# EAGLE library part 1P12T (library switches)
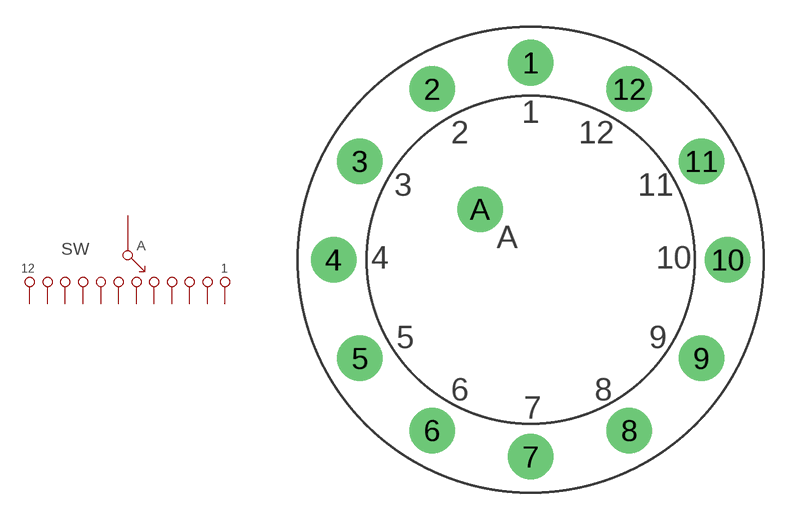
[diagram p2: symbol with the pads of 12T; footprint 12T]

Designator prefix SW

## 1P12T  [12T]
1  P$1
2  P$2
3  P$3
4  P$4
5  P$5
6  P$6
7  P$7
8  P$8
9  P$9
10  P$10
11  P$11
12  P$12
A  A

## Footprint 12T (pad centres in mm)
drill 1.6 pad 2.54: 1 0,10.999; 2 -5.5,9.526; 3 -9.525,5.5; 4 -10.999,0; 5 -9.525,-5.499; 6 -5.5,-9.525; 7 0,-10.999; 8 5.499,-9.525; 9 9.525,-5.499; 10 10.999,0; 11 9.525,5.499; 12 5.499,9.525; A -2.828,2.828